# Altium schematic symbol library SCH - MISC - HFBR-2531Z.SCHLIB: 1 symbol
Pins are listed as number, name and electrical type; pins without a type are passive.

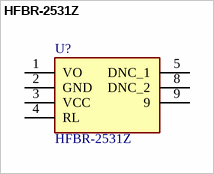
[diagram p0: symbol HFBR-2531Z]

## HFBR-2531Z
designator U?
Undefined or Miscellaneous
pins: 1 VO, 2 GND, 3 VCC, 4 RL, 5 DNC_1, 8 DNC_2, 9